# EAGLE library part SL811HS (library crasbe)
Cypress SL811HS The SL811HS is an Embedded USB Host/Slave Controller capable of communicate with either full-speed or low-speed USB peripherals. The SL811HS can interface to devices such as microprocessors, microcontrollers, DSPs, or directly to a variety of buses such as ISA, PCMCIA, and others. The SL811HS USB Host Controller conforms to USB Specification 1.1.
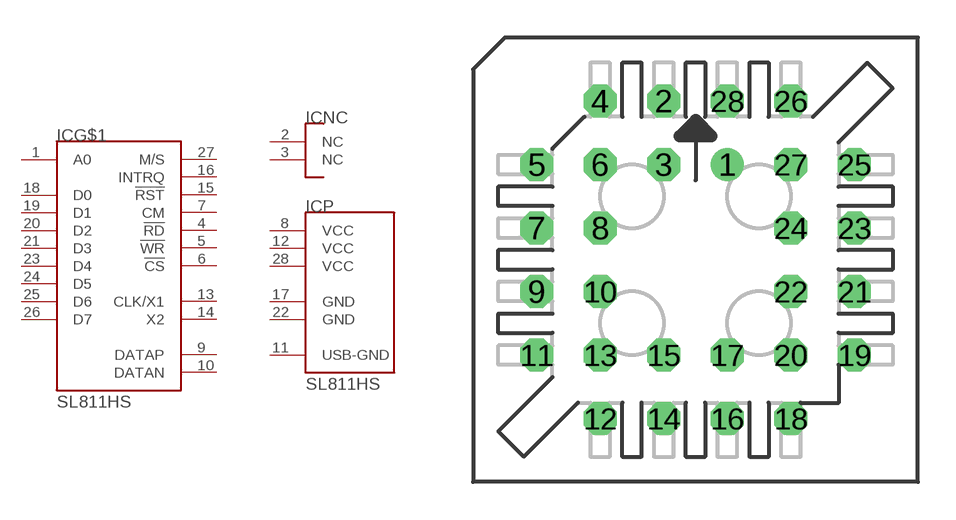
[diagram p6: symbol with the pads of PLCC-S28; footprint PLCC-S28]

Designator prefix IC; gates G$1=SL811HS NC=NC2 P=SL811HS_PWR

## SL811HS_  [PLCC-S28]
1  G$1:A0  in
2  NC:NC  nc
3  NC:NC  nc
4  G$1:!RD
5  G$1:!WR
6  G$1:!CS
7  G$1:CM  in
8  P:VCC  pwr
9  G$1:DATAP
10  G$1:DATAN
11  P:USB-GND  pwr
12  P:VCC  pwr
13  G$1:CLK/X1  in
14  G$1:X2  out
15  G$1:!RST  in
16  G$1:INTRQ  out
17  P:GND  pwr
18  G$1:D0
19  G$1:D1
20  G$1:D2
21  G$1:D3
22  P:GND  pwr
23  G$1:D4
24  G$1:D5
25  G$1:D6
26  G$1:D7
27  G$1:M/S  in
28  P:VCC  pwr

## Footprint PLCC-S28 (pad centres in mm)
drill 0.813: 1 1.27,3.81
drill 0.813 octagon: 2 -1.27,6.35; 3 -1.27,3.81; 4 -3.81,6.35; 5 -6.35,3.81; 6 -3.81,3.81; 7 -6.35,1.27; 8 -3.81,1.27; 9 -6.35,-1.27; 10 -3.81,-1.27; 11 -6.35,-3.81; 12 -3.81,-6.35; 13 -3.81,-3.81; 14 -1.27,-6.35; 15 -1.27,-3.81; 16 1.27,-6.35; 17 1.27,-3.81; 18 3.81,-6.35; 19 6.35,-3.81; 20 3.81,-3.81; 21 6.35,-1.27; 22 3.81,-1.27; 23 6.35,1.27; 24 3.81,1.27; 25 6.35,3.81; 26 3.81,6.35; 27 3.81,3.81; 28 1.27,6.35